# Altium schematic symbol library INA129P.SchLib: 1 symbol
Pins are listed as number, name and electrical type; pins without a type are passive.

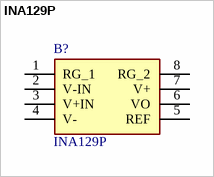
[diagram p0: symbol INA129P]

## INA129P
designator B?
Texas Instruments INA129P Instrumentation Amplifier, CMMR 80dB, 8-Pin PDIP; Geometry.Height: 5.08mm; Manufacturer_Name: Texas Instruments; Manufacturer_Part_Number: INA129P; Mouser Part Number: 595-INA129P; Mouser Price/Stock: https://www.mouser.co.uk/ProductDetail/Texas-Instruments/INA129P?qs=pt%2FIv5r0EPeetMaOMVBEGQ%3D%3D; Arrow Part Number: INA129P; Arrow Price/Stock: https://www.arrow.com/en/products/ina129p/texas-instruments?region=nac; Datasheet Link: http://www.ti.com/lit/gpn/ina129
footprint DIP794W53P254L959H508Q8N
pins: 1 RG_1, 2 V-IN, 3 V+IN, 4 V-, 5 REF, 6 VO, 7 V+, 8 RG_2